# Altium footprint library BNO055 Breakout.PcbLib: 1 footprints
Each footprint in its own frame and in the unit in brackets; x right, y up, seen from the top. Pads: shape width x height; smd on the part's side, far side on the other; paste and mask are expansions set on the pad; w line width, h text height; cw(c..) or ccw(c..) is an arc to the next point about the centre after c.
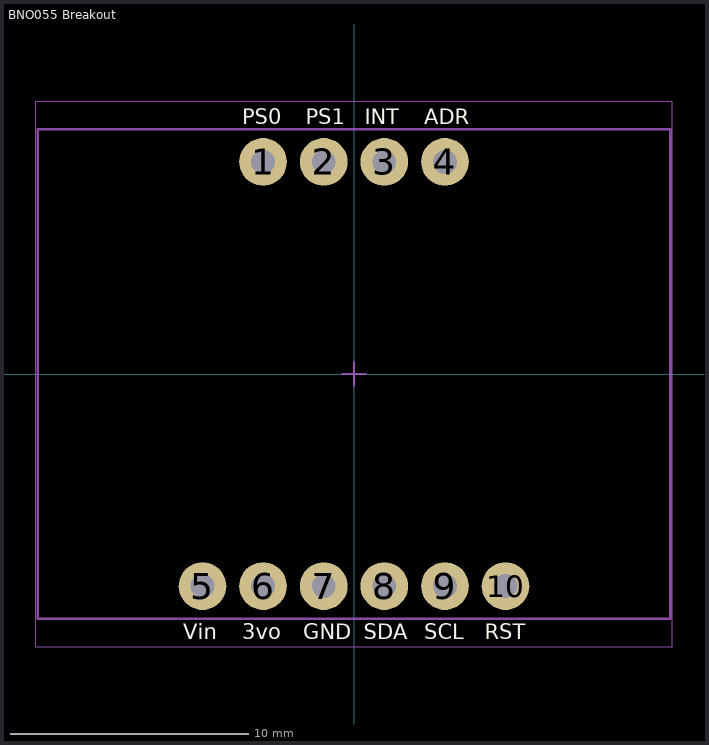
[diagram p0: the footprint, top view; thin cyan lines are the x and y axes]

## BNO055 Breakout [mm]
pads (10):
  round 2 hole 1: 1(-3.81,8.89) 2(-1.27,8.89) 3(1.27,8.89) 4(3.81,8.89) 5(-6.35,-8.89) 6(-3.81,-8.89) 7(-1.27,-8.89) 8(1.27,-8.89) 9(3.81,-8.89) 10(6.35,-8.89)
Top Overlay:
  text "Vin" at -7.162,-11.12 h0.65
  text "3vo" at -4.676,-11.12 h0.65
  text "GND" at -2.136,-11.12 h0.65
  text "SDA" at 0.404,-11.12 h0.65
  text "SCL" at 2.944,-11.12 h0.65
  text "RST" at 5.484,-11.12 h0.65
  text "ADR" at 2.944,10.47 h0.65
  text "PS0" at -4.676,10.47 h0.65
  text "PS1" at -2.028,10.47 h0.65
  text "INT" at 0.458,10.47 h0.65
Mechanical 1:
  circle w0.1: c6.35,-8.89 r0.5
  circle w0.1: c3.81,-8.89 r0.5
  circle w0.1: c1.27,-8.89 r0.5
  circle w0.1: c-1.27,-8.89 r0.5
  circle w0.1: c-3.81,-8.89 r0.5
  circle w0.1: c-6.35,-8.89 r0.5
  circle w0.1: c3.81,8.89 r0.5
  circle w0.1: c1.27,8.89 r0.5
  circle w0.1: c-1.27,8.89 r0.5
  circle w0.1: c-3.81,8.89 r0.5
  lines w0.1: -13.25,-10.25 -13.25,10.25 13.25,10.25 13.25,-10.25 -13.25,-10.25
  text ".Designator" at -3.294,-0.269 h0.65
  text "PS0" at -4.676,7.295 h0.65
  text "PS1" at -2.028,7.295 h0.65
  text "INT" at 0.458,7.295 h0.65
  text "ADR" at 2.944,7.295 h0.65
  text "Vin" at -7.162,-7.945 h0.65
  text "3vo" at -4.676,-7.945 h0.65
  text "GND" at -2.136,-7.945 h0.65
  text "SDA" at 0.404,-7.945 h0.65
  text "SCL" at 2.944,-7.945 h0.65
  text "RST" at 5.484,-7.945 h0.65
Mechanical 2:
  lines w0.05: -13.335,-11.43 -13.335,11.43 13.335,11.43 13.335,-11.43 -13.335,-11.43
  lines w0.1: -0.5,0 0.5,0 ; 0,-0.5 0,0.5
3D body "2472 BNO055 Breakout.step": height 4.23, standoff 0, extent -13.335,-10.16 13.335,10.16